# EAGLE library part DPDT-HORIZONTAL-RIGHT (library Switches)
Horizontal DPDT switch in the right position.
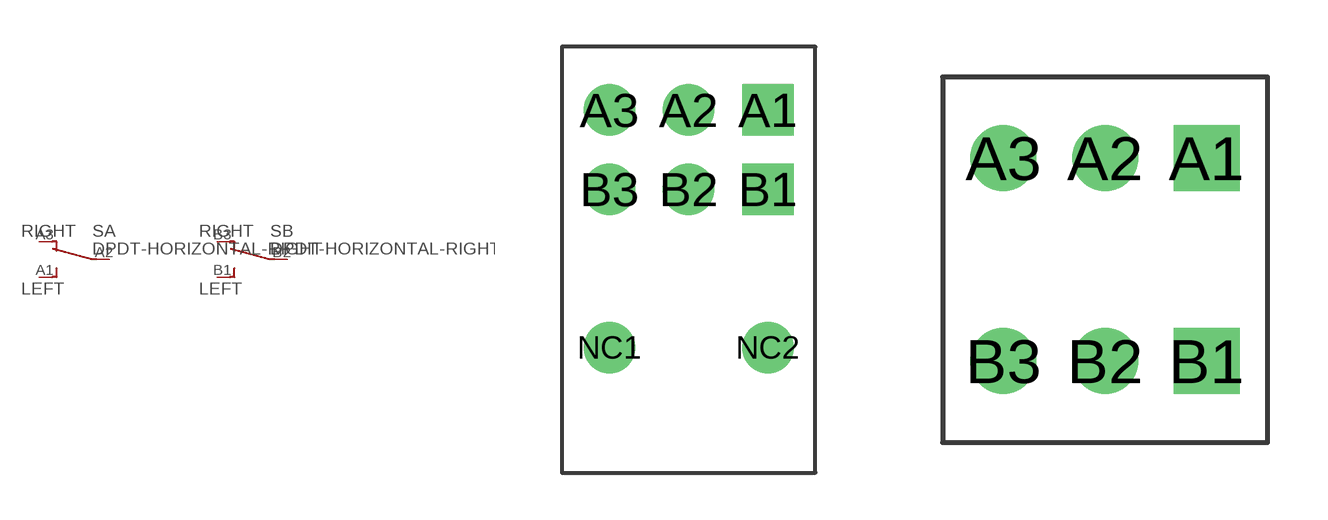
[diagram p4: symbol with the pads of DPDT-HORIZONTAL-SIDE-SUBMINI-MULTICOMP; footprints DPDT-HORIZONTAL-SIDE-SUBMINI-MULTICOMP, DPDT-HORIZONTAL-TOP-SUBMINI-MULTICOMP]

Designator prefix S; gates A=SPDT-HORIZONTAL-RIGHT B=SPDT-HORIZONTAL-RIGHT

## DPDT-HORIZONTAL-RIGHTSIDE-SUBMINI (SPICE: R{NAME}A {A.2.NET} {A.3.NET} 1\nR{NAME}B {B.2.NET} {B.3.NET} 1)  [DPDT-HORIZONTAL-SIDE-SUBMINI-MULTICOMP]
A1  A:1  pas
A2  A:2  pas
A3  A:3  pas
B1  B:1  pas
B2  B:2  pas
B3  B:3  pas

## DPDT-HORIZONTAL-RIGHTTOP-SUBMINI  [DPDT-HORIZONTAL-TOP-SUBMINI-MULTICOMP]
Pads as for DPDT-HORIZONTAL-SIDE-SUBMINI-MULTICOMP

## DPDT-HORIZONTAL-RIGHTTOP-MINI (SPICE: R{NAME}A {A.2.NET} {A.3.NET} 1\nR{NAME}B {B.2.NET} {B.3.NET} 1)  [DPDT-HORIZONTAL-TOP-MINI-MULTICOMP]
Pads as for DPDT-HORIZONTAL-SIDE-SUBMINI-MULTICOMP

## DPDT-HORIZONTAL-RIGHTSIDE-MINI (SPICE: R{NAME}A {A.2.NET} {A.3.NET} 1\nR{NAME}B {B.2.NET} {B.3.NET} 1)  [DPDT-HORIZONTAL-SIDE-MINI-MULTICOMP]
Pads as for DPDT-HORIZONTAL-SIDE-SUBMINI-MULTICOMP

## Footprint DPDT-HORIZONTAL-SIDE-SUBMINI-MULTICOMP (pad centres in mm)
Multicomp horizontal side adjust DPDT switch, 1.1mm drill, 0.1in lead spacing.
drill 1.1 square: A1 2.54,7.62; B1 2.54,5.08
drill 1.1 round: A2 0,7.62; A3 -2.54,7.62; B2 0,5.08; B3 -2.54,5.08; NC1 -2.54,0; NC2 2.54,0

## Footprint DPDT-HORIZONTAL-TOP-SUBMINI-MULTICOMP (pad centres in mm)
Multicomp horizontal top adjust DPDT switch, 1.1mm drill, 0.1in lead spacing.
drill 1.1 square: A1 2.54,2.54; B1 2.54,-2.54
drill 1.1 round: A2 0,2.54; A3 -2.54,2.54; B2 0,-2.54; B3 -2.54,-2.54

## Footprint DPDT-HORIZONTAL-TOP-MINI-MULTICOMP (pad centres in mm)
Multicomp horizontal top adjust miniature DPDT switch, 1.9mm drill, 0.185in lead spacing.
drill 1.9 square: A1 4.699,2.413; B1 4.699,-2.413
drill 1.9 round: A2 0,2.413; A3 -4.699,2.413; B2 0,-2.413; B3 -4.699,-2.413; NC1 7.874,1.587; NC2 7.874,-1.587; NC3 -7.874,1.587; NC4 -7.874,-1.587

## Footprint DPDT-HORIZONTAL-SIDE-MINI-MULTICOMP (pad centres in mm)
Multicomp horizontal side adjust miniature DPDT switch, 1.9mm drill, 0.185in lead spacing.
drill 1.9 square: A1 4.699,16.51; B1 4.699,12.7
drill 1.9 round: A2 0,16.51; A3 -4.699,16.51; B2 0,12.7; B3 -4.699,12.7; NC1 -2.54,0; NC2 2.54,0